# Altium footprint library SG_PCB_AltSobor.PcbLib: 45 footprints (part 2 of 3)
Each footprint in its own frame and in the unit in brackets; x right, y up, seen from the top. Pads: shape width x height; smd on the part's side, far side on the other; paste and mask are expansions set on the pad; w line width, h text height; cw(c..) or ccw(c..) is an arc to the next point about the centre after c.
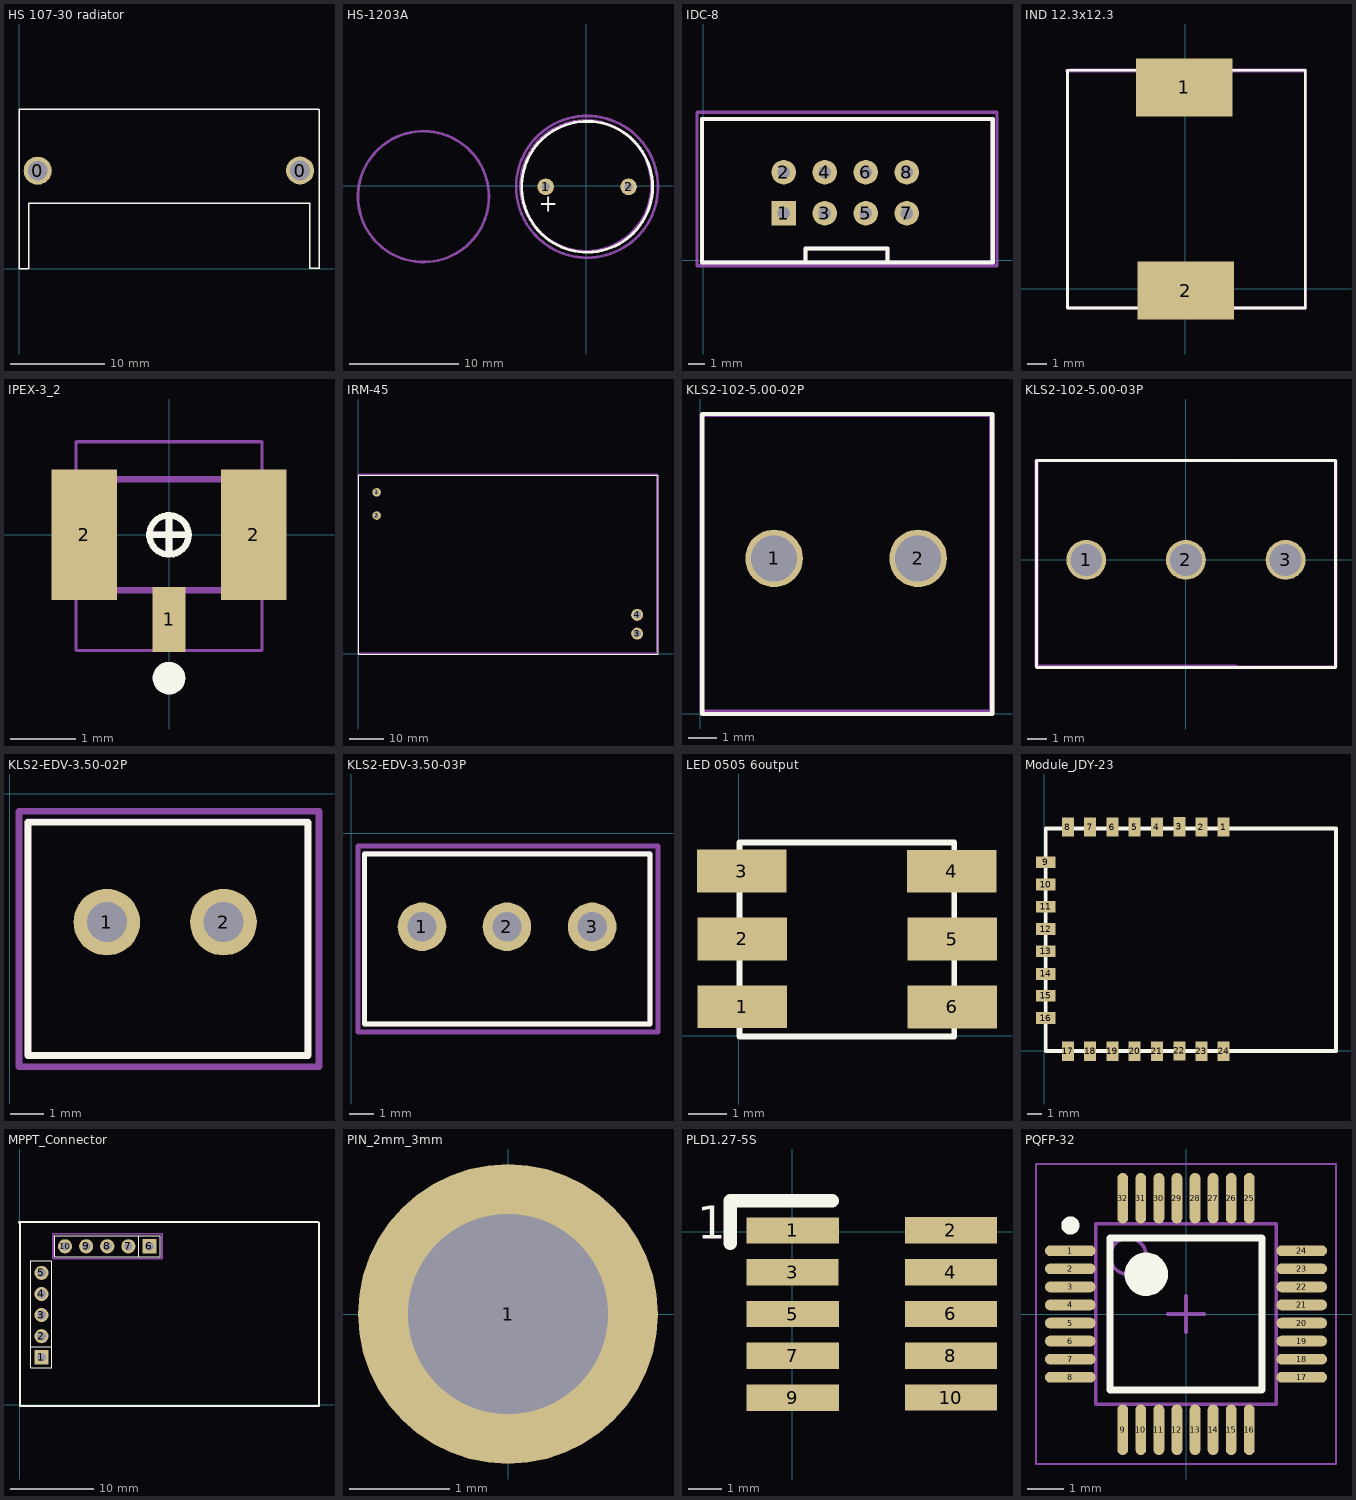
[diagram p1: the footprints below, top view; thin cyan lines are the x and y axes]

## HS 107-30 radiator [mm]
pads (2):
  round 3 hole 2.1: 0(1.995,10.46) 0(29.99,10.48)
Top Overlay:
  lines w0.15: 1,0 0,0 0,17 32,17 ; 1.015,0.015 1.015,6.995 30.99,6.995 ; 31.01,7.015 31.01,0.035 31.99,0.035 ; 32.01,0.015 32.01,17.015

## HS-1203A [mil]
pads (2):
  round 60 hole 30: 1(-145.67,-3.94) 2(153.54,-3.94)
Top Overlay:
  circle w10: c3.94,-3.94 r236.22
  text "+" at -171.1,-94.49 h60
Top Assembly:
  circle w10: c0,0 r236.22
  circle w10: c-586.61,-39.37 r236.22
Top Courtyard:
  circle w10: c3.94,-3.94 r255.91
3D body "Buzzer_HS-1203A_7,6mm.SLDPRT": height 377.95, standoff -216.54, extent -232.28,-240.15 240.16,232.29

## IDC-8 [mil]
pads (8):
  rect 60x60 hole 30: 1(196.65,115.35)
  round 60 hole 30: 2(196.65,215.35) 3(296.65,115.35) 4(296.65,215.35) 5(396.65,115.35) 6(396.65,215.35) 7(496.65,115.35) 8(496.65,215.35)
Top Overlay:
  lines w10: 249.8,-1.1 249.8,28.9 449.8,28.9 449.8,-1.1 ; -3.35,-4.65 -3.35,345.35 706.3,345.35 706.3,-4.65 -3.35,-4.65
Top Assembly:
  lines w10: 249.8,-1.1 249.8,28.9 449.8,28.9 449.8,-1.1 ; -3.35,-4.65 -3.35,345.35 705.32,345.35 705.32,-4.65 -3.35,-4.65
Top Courtyard:
  lines w7.87: -15.16,-12.6 716.73,-12.6 716.73,361.42 -15.16,361.42 -15.16,-12.6
3D body "User Library-DS1013-8S (IDC-8MS CONNFLY).STEP": height 354.33, standoff -141.73, extent -14.37,-4.72 692.72,345.67

## IND 12.3x12.3 [mm]
pads (2):
  rect 5x3 smd: 1(-0.045,10.405) 2(0.03,-0.11)
Top Overlay:
  lines w0.15: -6.095,-1.01 6.205,-1.01 6.205,11.29 -6.095,11.29 -6.095,-1.01
Top Courtyard:
  lines w0.15: -6.095,-0.9 -5.98,-1.015 6.17,-1.015 6.23,-0.955 6.23,11.31 -5.925,11.31 -6.095,11.14 -6.095,-0.9
Bottom Courtyard:
  lines w0.15: -6.15,11.255 6.23,11.255 6.23,-1.015 -6.095,-1.015 -6.095,11.2 -6.15,11.255

## IPEX-3_2 [mm] "Hand Drawn, 4-Leads, Body 1.7x1.7mm"
height 0.85
pads (3):
  rect 0.5x1 smd: 1(0,-1.3)
  rect 1x2 smd: 2(-1.3,0) 2(1.3,0)
Top Overlay:
  circle w0.1: c0,-0.003 r0.3
  circle w0.25: c0,-2.2 r0.125
  lines w0.1: -0.25,0 0.25,0 ; 0,-0.25 0,0.25
Mechanical 13:
  lines w0.1: -0.85,-0.85 0.85,-0.85 0.85,0.85 -0.85,0.85 -0.85,-0.85
Mechanical 15:
  lines w0.05: -1.425,-1.775 -1.425,1.425 ; -1.4,-1.775 1.4,-1.775 ; -1.4,1.425 1.4,1.425 ; 1.425,-1.775 1.425,1.425
  lines w0.1: -0.25,0 0.25,0 ; 0,-0.25 0,0.25
3D body: height 0.85, standoff 0, extent -0.85,-0.85 0.85,0.85

## IRM-45 [mm]
pads (4):
  round 2.5 hole 1.1: 1(5.31,47.03) 2(5.31,40.275)
  round 3.5 hole 2.1: 3(81.31,5.825) 4(81.31,11.305)
Top Overlay:
  lines w0.15: 0.095,-0.215 0.095,52.03 87.365,52.03 87.39,52.005 87.39,-0.265 87.34,-0.215 0.095,-0.215
Top Assembly:
  lines w0.15: -0.11,-0.01 87.135,-0.01 87.185,-0.06 87.185,52.21 87.16,52.235 -0.11,52.235 -0.11,-0.01
Bottom Assembly:
  lines w0.15: 0.05,0.28 87.295,0.28 87.345,0.23 87.345,52.5 87.32,52.525 0.05,52.525 0.05,0.28
Top Courtyard:
  lines w0.15: 0.01,49.94 0.01,0.065 ; 0.01,0.065 87.01,0.065 87.01,0.17 87.01,52.045 0.01,52.045 0.01,0.065
3D body "User Library-IRM-45.STEP": height 29.6, standoff -3.5, extent 0.005,0.125 87.005,52.125

## KLS2-102-5.00-02P [mm]
pads (2):
  round 2 hole 1.6: 1(2.57,5.395) 2(7.57,5.395)
Top Overlay:
  lines w0.15: 0.07,10.392 0.07,-0.01 10.085,-0.01 10.11,0.015 ; 0.1,10.38 0.125,10.405 10.14,10.405 10.14,0.002
Top Courtyard:
  lines w0.15: 0.05,0.075 0.05,10.365 ; 0.05,0.075 0.05,10.365 ; 0.05,0.075 10.095,0.075 10.15,0.02 10.15,10.365 10.125,10.39 0.075,10.39 0.05,10.365
Bottom Courtyard:
  lines w0.15: 0.05,0.065 0.095,0.02 10.11,0.02 10.11,10.36 10.095,10.375 0.09,10.375 0.05,10.335 0.05,0.065
3D body "User Library-KLS2-102-5_00.STEP": height 10.4, standoff -4.5, extent 0.135,-0.02 5.385,10.38
3D body "User Library-KLS2-102-5_00.STEP": height 10.4, standoff -4.5, extent 4.875,-0.015 10.125,10.385

## KLS2-102-5.00-03P [mm]
pads (3):
  round 2 hole 1.6: 1(-5,0) 2(0,0) 3(5,0)
Top Overlay:
  lines w0.15: -7.5,4.997 -7.5,-5.405 7.5,-5.405 ; -7.47,4.985 7.51,4.985 7.51,-5.375
Top Courtyard:
  lines w0.15: -7.52,4.97 -7.52,-5.32 ; 2.555,4.995 2.58,4.97 ; 2.58,-5.375 2.525,-5.32 -7.52,-5.32 ; 7.505,4.995 -7.52,4.995 -7.52,-5.32 ; 7.53,-5.38 7.53,4.965
Bottom Courtyard:
  lines w0.15: 7.51,-5.375 7.51,4.99 ; 7.52,4.98 -7.48,4.98 -7.48,-5.37 -7.475,-5.375 7.525,-5.375
3D body "User Library-KLS2-102-5_00.STEP": height 10.4, standoff -4.5, extent -2.695,-5.41 2.555,4.99
3D body "User Library-KLS2-102-5_00.STEP": height 10.4, standoff -4.5, extent 2.27,-5.405 7.52,4.995
3D body "User Library-KLS2-102-5_00.STEP": height 10.4, standoff -4.5, extent -7.435,-5.415 -2.185,4.985

## KLS2-EDV-3.50-02P [mm]
pads (2):
  round 2 hole 1.2: 1(2.915,-3.845) 2(6.415,-3.845)
Top Overlay:
  lines w0.2: 0.551,-7.845 0.551,-0.851 8.951,-0.851 8.951,-7.845 0.551,-7.845
Top Assembly:
  lines w0.2: 0.544,-7.845 8.943,-7.845 8.943,-0.835 0.544,-0.835 0.544,-7.845
Top Courtyard:
  lines w0.2: 0.28,-8.18 9.28,-8.18 9.28,-0.52 0.28,-0.52 0.28,-8.18
3D body: height 9.2, standoff 0, extent 0.56,-7.83 8.935,-0.865

## KLS2-EDV-3.50-03P [mm]
pads (3):
  round 2 hole 1.2: 1(2.915,-3.845) 2(6.415,-3.845) 3(9.925,-3.845)
Top Overlay:
  lines w0.2: 0.551,-7.845 12.305,-7.845 12.305,-0.851 0.551,-0.851 0.551,-7.845
Top Assembly:
  lines w0.2: 0.544,-7.845 0.544,-0.835 12.31,-0.835 12.31,-7.845 0.544,-7.845
Top Courtyard:
  lines w0.2: 0.28,-8.18 0.28,-0.52 12.635,-0.52 12.635,-8.18 0.28,-8.18
3D body: height 9.2, standoff 0, extent 0.56,-7.83 12.3,-0.9

## LED 0505 6output [mm]
pads (6):
  rect 2.3x1.1 smd: 1(0.08,0.745) 2(0.08,2.49) 3(0.07,4.235) 4(5.48,4.23) 5(5.49,2.485) 6(5.49,0.74)
Top Overlay:
  lines w0.15: 0.015,-0.025 5.27,-0.025 5.54,-0.025 5.54,4.975 0.285,4.975 0.015,4.975 0.015,-0.025
3D body: height 0.25, standoff 0, extent -0.035,0.08 5.485,4.97

## Module_JDY-23 [mm]
pads (24):
  rect 0.8x1.3 smd: 1(12.084,15.086) 2(10.584,15.086) 3(9.104,15.1) 4(7.584,15.086) 5(6.084,15.086) 6(4.584,15.086) 7(3.084,15.086) 8(1.584,15.086) 17(1.584,-0.014) 18(3.084,-0.014) 19(4.584,-0.014) 20(6.084,-0.014) 21(7.584,-0.014) 22(9.104,0) 23(10.584,-0.014) 24(12.084,-0.014)
  rect 1.3x0.8 smd: 9(0.086,12.716) 10(0.086,11.216) 11(0.086,9.716) 12(0.086,8.216) 13(0.086,6.716) 14(0.1,5.196) 15(0.086,3.716) 16(0.086,2.216)
Top Overlay:
  lines w0.254: 0.1,14.94 0.1,0 ; 0.1,0 0.1,14.986 19.658,14.986 19.658,0 0.1,0
3D body "JDY-08.stp": height 2.08, standoff 0, extent 0,-0.106 19.888,14.906

## MPPT_Connector [mm]
pads (10):
  rect 1.7x1.7 hole 1.05 mask+0.05: 1(2.6,5.74) 6(15.6,19.1)
  round 1.7 hole 1.05 mask+0.05: 2(2.6,8.28) 3(2.6,10.82) 4(2.6,13.36) 5(2.6,15.9) 7(13.06,19.1) 8(10.52,19.1) 9(7.98,19.1) 10(5.44,19.1)
Top Overlay:
  lines w0.15: 1.33,7.01 3.87,7.01 ; 14.33,17.83 14.33,20.37 ; 1.33,4.47 3.87,4.47 3.87,17.34 1.33,17.34 1.33,4.47 ; 4.2,17.83 16.87,17.83 16.87,20.37 4.2,20.37 4.2,17.83
  lines w0.254: -0.1,22 35.9,22 36,21.9 36,-0.1 0,-0.1 0,21.9 -0.1,22
Top Courtyard:
  lines w0.2: 4,17.6 17.1,17.6 17.1,20.6 4,20.6 4,17.6
3D body "PLS1.stp": height 8.54, standoff -3, extent 9.25,17.83 11.79,20.37
3D body "PLS1.stp": height 8.54, standoff -3, extent 6.71,17.83 9.25,20.37
3D body "PLS1.stp": height 8.54, standoff -3, extent 4.17,17.83 6.71,20.37
3D body "PLS1.stp": height 8.54, standoff -3, extent 14.23,17.86 16.77,20.4
3D body "PLS1.stp": height 8.54, standoff -3, extent 11.79,17.83 14.33,20.37
3D body "PLS1.stp": height 8.54, standoff -3, extent 1.33,14.63 3.87,17.17
3D body "PLS1.stp": height 8.54, standoff -3, extent 1.33,12.09 3.87,14.63
3D body "PLS1.stp": height 8.54, standoff -3, extent 1.33,9.55 3.87,12.09
3D body "PLS1.stp": height 8.54, standoff -3, extent 1.33,7.01 3.87,9.55
3D body "PLS1.stp": height 8.54, standoff -3, extent 1.33,4.51 3.87,7.05

## PIN_2mm_3mm [mm]
pads (1):
  round 3 hole 2: 1(0,0)

## PLD1.27-5S [mm]
pads (10):
  rect 2.8x0.8 smd mask+0.05: 1(0.009,0.046) 2(4.815,0.047) 3(0.005,-1.226) 4(4.815,-1.223) 5(0.009,-2.494) 6(4.815,-2.493) 7(0.009,-3.764) 8(4.815,-3.763) 9(0.009,-5.034) 10(4.815,-5.033)
Top Overlay:
  lines w0.4: -1.891,-0.354 -1.891,0.946 1.209,0.946
  text "1" at -2.9,-0.2 h1

## PQFP-32 [mm] "PQFP, 32-Leads, Body 5,00x5,00mm, Pitch 0,50mm, IPC Medium Density"
height 1.2
pads (32):
  oval 1.4x0.3 smd: 1(-3.2,1.75) 2(-3.2,1.25) 3(-3.2,0.75) 4(-3.2,0.25) 5(-3.2,-0.25) 6(-3.2,-0.75) 7(-3.2,-1.25) 8(-3.2,-1.75) 17(3.2,-1.75) 18(3.2,-1.25) 19(3.2,-0.75) 20(3.2,-0.25) 21(3.2,0.25) 22(3.2,0.75) 23(3.2,1.25) 24(3.2,1.75)
  oval 0.3x1.4 smd: 9(-1.75,-3.2) 10(-1.25,-3.2) 11(-0.75,-3.2) 12(-0.25,-3.2) 13(0.25,-3.2) 14(0.75,-3.2) 15(1.25,-3.2) 16(1.75,-3.2) 25(1.75,3.2) 26(1.25,3.2) 27(0.75,3.2) 28(0.25,3.2) 29(-0.25,3.2) 30(-0.75,3.2) 31(-1.25,3.2) 32(-1.75,3.2)
Top Overlay:
  circle w0.25: c-3.2,2.45 r0.125
  circle w0.6: c-1.1,1.1 r0.3
  lines w0.2: -2.1,-2.1 -2.1,2.1 2.1,2.1 2.1,-2.1 -2.1,-2.1
Top Assembly:
  circle w0.1: c-1.6,1.6 r0.5
  lines w0.1: -2.5,-2.5 -2.5,2.5 2.5,2.5 2.5,-2.5 -2.5,-2.5
Top Courtyard:
  lines w0.05: -4.15,-4.15 -4.15,4.15 4.15,4.15 4.15,-4.15 -4.15,-4.15
  lines w0.1: -0.5,0 0.5,0 ; 0,-0.5 0,0.5
3D body "PQFP-32.step": height 1.2, standoff 0, extent -3.5,-3.5 3.5,3.5